# Altium footprint library Other.PcbLib: 23 footprints (part 2 of 2)
Each footprint in its own frame and in the unit in brackets; x right, y up, seen from the top. Pads: shape width x height; smd on the part's side, far side on the other; paste and mask are expansions set on the pad; w line width, h text height; cw(c..) or ccw(c..) is an arc to the next point about the centre after c.
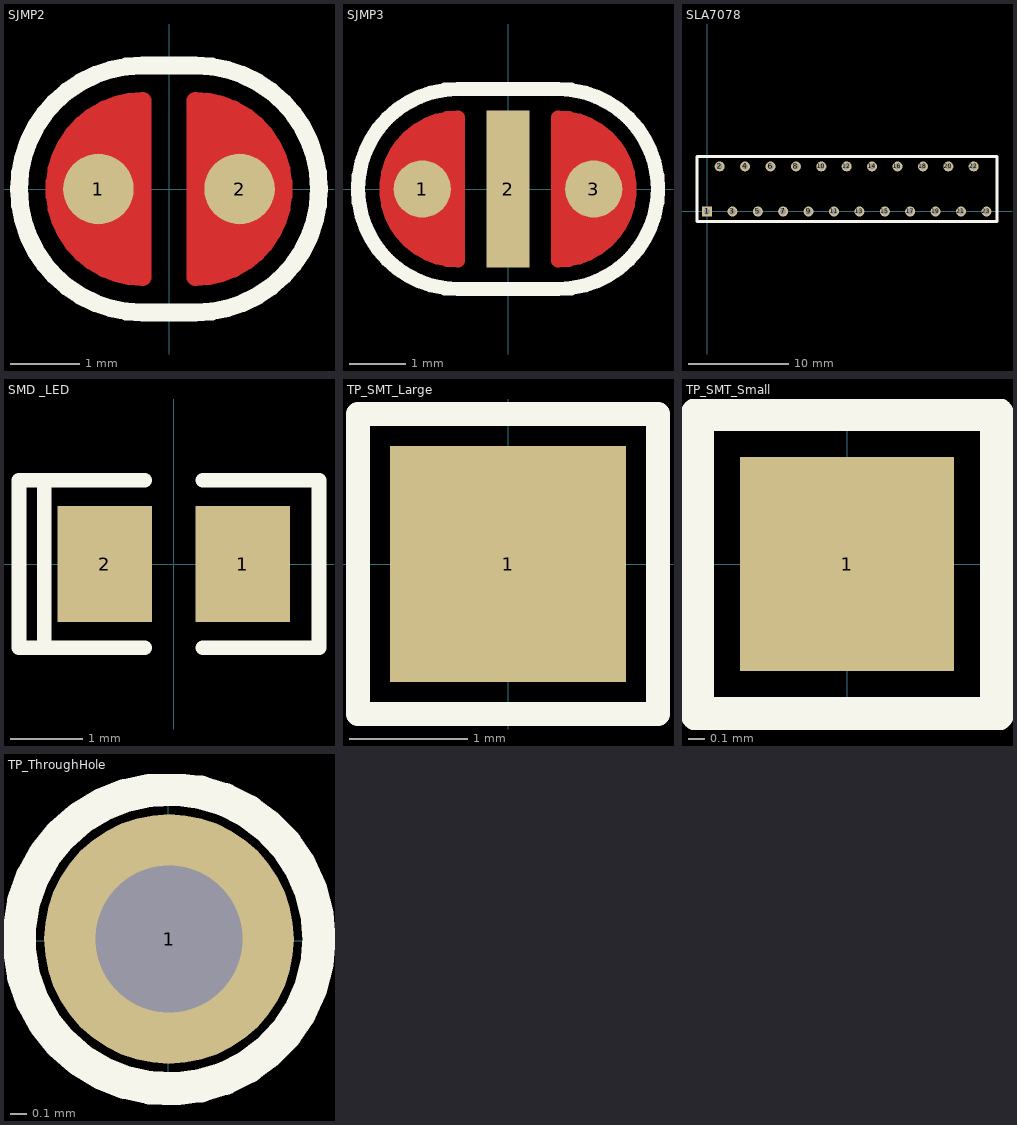
[diagram p1: the footprints below, top view; thin cyan lines are the x and y axes]

## SJMP2 [mil] "2 Pin Solder Jamper"
pads (2):
  round 40 smd paste+0 mask+0: 1(-40,0) 2(40,0)
Top Layer:
  region: -15,-50 -15,50 -35,50 -65,20 -65,-20 -35,-50
  region: 15,50 15,-50 35,-50 65,-20 65,20 35,50
  lines w10: -15,-50 cw(c-15,0) -15,50 -15,-50 ; 15,-50 ccw(c15,0) 15,50 15,-50
Top Overlay:
  lines w10: -15,-70 cw(c-15,0) -15,70 15,70 cw(c15,0) 15,-70 -15,-70
Top Paste:
  region: -15,-50 -15,50 -35,50 -65,20 -65,-20 -35,-50
  region: 15,50 15,-50 35,-50 65,-20 65,20 35,50
  lines w10: -15,-50 cw(c-15,0) -15,50 -15,-50 ; 15,-50 ccw(c15,0) 15,50 15,-50
Top Solder:
  region: 10,55 10,-55 30,-55 55,-40 65,-20 70,0 65,20 55,40 30,55
  region: -10,-55 -10,55 -30,55 -55,40 -65,20 -70,0 -65,-20 -55,-40 -30,-55
  lines w10: -10,-55 -10,55 ; -10.02,-54.77 cw(c-15,0) -10.02,54.77 ; 10,-55 10,55 ; 10.02,-54.77 ccw(c15,0) 10.02,54.77

## SJMP3 [mil] "3 Pin Solder Jamper"
pads (3):
  round 40 smd paste+0 mask+0: 1(-60,0) 3(60,0)
  rect 30x110 smd mask+5: 2(0,0)
Top Layer:
  region: -35,-50 -35,50 -55,50 -85,20 -85,-20 -55,-50
  region: 35,50 35,-50 55,-50 85,-20 85,20 55,50
  lines w10: -35,-50 cw(c-35,0) -35,50 -35,-50 ; 35,-50 ccw(c35,0) 35,50 35,-50
Top Overlay:
  lines w10: -35,-70 cw(c-35,0) -35,70 35,70 cw(c35,0) 35,-70 -35,-70
Top Paste:
  region: -35,-50 -35,50 -55,50 -85,20 -85,-20 -55,-50
  region: 35,50 35,-50 55,-50 85,-20 85,20 55,50
  lines w10: -35,-50 cw(c-35,0) -35,50 -35,-50 ; 35,-50 ccw(c35,0) 35,50 35,-50
Top Solder:
  region: 30,55 30,-55 50,-55 75,-40 85,-20 90,0 85,20 75,40 50,55
  region: -30,-55 -30,55 -50,55 -75,40 -85,20 -90,0 -85,-20 -75,-40 -50,-55
  lines w10: -30,-55 -30,55 ; -30.02,-54.77 cw(c-35,0) -30.02,54.77 ; 30,-55 30,55 ; 30.02,-54.77 ccw(c35,0) 30.02,54.77

## SLA7078 [mm]
height 20
pads (23):
  rect 1x1 hole 0.6: 1(0,0)
  round 1 hole 0.6: 2(1.27,4.51) 3(2.54,0) 4(3.81,4.51) 5(5.08,0) 6(6.35,4.51) 7(7.62,0) 8(8.89,4.51) 9(10.16,0) 10(11.43,4.51) 11(12.7,0) 12(13.97,4.51) 13(15.24,0) 14(16.51,4.51) 15(17.78,0) 16(19.05,4.51) 17(20.32,0) 18(21.59,4.51) 19(22.86,0) 20(24.13,4.51) 21(25.4,0) 22(26.67,4.51) 23(27.94,0)
Top Overlay:
  lines w0.254: -1,-1 -1,5.5 29,5.5 29,-1 -1,-1

## SMD _LED [mm]
pads (2):
  rect 1.3x1.6 smd: 1(0.948,0.006) 2(-0.952,0.006)
Top Overlay:
  lines w0.2: -1.782,-1.144 -1.782,1.156 ; -0.402,-1.144 -2.132,-1.144 -2.132,1.156 -0.402,1.156 ; 0.398,-1.144 1.998,-1.144 1.998,1.156 0.398,1.156
3D body: height 0.64, standoff 0, extent -1.524,-0.635 1.524,0.635
3D body: height 1.27, standoff 0, extent -0.508,-0.508 0.508,0.508

## TP_SMT_Large [mm] "SMT Test Point"
pads (1):
  rect 2x2 smd: 1(0,0)
Top Overlay:
  lines w0.2: -1.27,-1.27 -1.27,1.27 1.27,1.27 1.27,-1.27 -1.27,-1.27

## TP_SMT_Small [mm] "SMT Test Point"
pads (1):
  rect 1.27x1.27 smd: 1(0,0)
Top Overlay:
  lines w0.2: -0.889,-0.889 -0.889,0.889 0.889,0.889 0.889,-0.889 -0.889,-0.889

## TP_ThroughHole [mil] "Through Hole Test Point"
pads (1):
  round 60 hole 35.43: 1(0.14,0.45)
Top Overlay:
  circle w8: c0.14,0.45 r36.06
3D body: height 0, standoff 0, extent -35.89,-35.59 36.18,36.48